# EAGLE library part LTC3860 (library PowerProducts)
Dual, Multiphase Step-Down Voltage Mode DC/DC Controller with Current Sharing
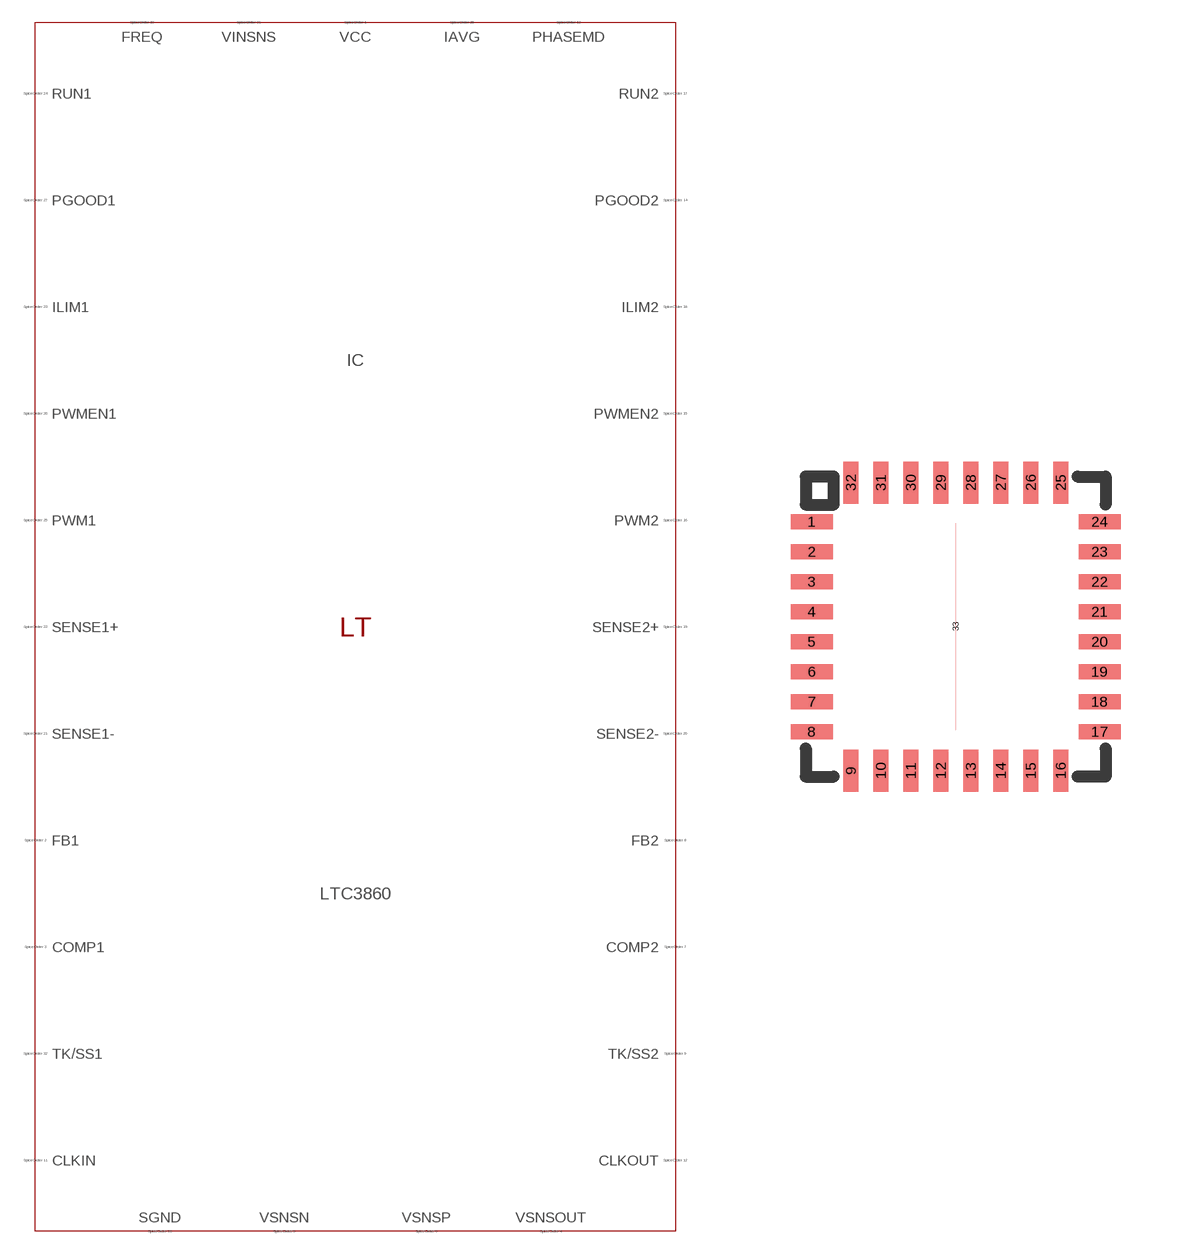
[diagram p379: symbol with the pads of QFN32(UH); footprint QFN32(UH)]

Designator prefix IC

## LTC3860 (SPICEMODEL: LTC3860.sub; SPICEPREFIX: X; VALUE2: LTC3860)  [QFN32(UH)]
1  VCC  pas
2  FB1  pas
3  COMP1  pas
4  VSNSOUT  pas
5  VSNSN  pas
6  VSNSP  pas
7  COMP2  pas
8  FB2  pas
9  TK/SS2  pas
10  FREQ  pas
11  CLKIN  pas
12  CLKOUT  pas
13  PHASEMD  pas
14  PGOOD2  pas
15  PWMEN2  pas
16  PWM2  pas
17  RUN2  pas
18  ILIM2  pas
19  SENSE2+  pas
20  SENSE2-  pas
21  SENSE1-  pas
22  SENSE1+  pas
23  ILIM1  pas
24  RUN1  pas
25  PWM1  pas
26  PWMEN1  pas
27  PGOOD1  pas
28  IAVG  pas
29  SGND  pas
30  SGND  pas
31  VINSNS  pas
32  TK/SS1  pas
33  SGND  pas

## Footprint QFN32(UH) (pad centres in mm)
Package generated from: QFN32(UH).asc (!PADS-POWERPCB-V5.0-BASIC! DESIGN DATABASE ASCII FILE 1.0) with :import-pads-powerpcb-v5.ulp Version 1.0.1 at 04.10.2012 14:11:25
smd 1.05 x 0.375: 1 -3.6,2.625; 2 -3.6,1.875; 3 -3.6,1.125; 4 -3.6,0.375; 5 -3.6,-0.375; 6 -3.6,-1.125; 7 -3.6,-1.875; 8 -3.6,-2.625; 17 3.6,-2.625; 18 3.6,-1.875; 19 3.6,-1.125; 20 3.6,-0.375; 21 3.6,0.375; 22 3.6,1.125; 23 3.6,1.875; 24 3.6,2.625
smd 0.375 x 1.05: 9 -2.625,-3.6; 10 -1.875,-3.6; 11 -1.125,-3.6; 12 -0.375,-3.6; 13 0.375,-3.6; 14 1.125,-3.6; 15 1.875,-3.6; 16 2.625,-3.6; 25 2.625,3.6; 26 1.875,3.6; 27 1.125,3.6; 28 0.375,3.6; 29 -0.375,3.6; 30 -1.125,3.6; 31 -1.875,3.6; 32 -2.625,3.6
smd 0 x 5.175: 33 0,0